# Altium footprint library PlacaHallsLib.PcbLib: 2 footprints
Each footprint in its own frame and in the unit in brackets; x right, y up, seen from the top. Pads: shape width x height; smd on the part's side, far side on the other; paste and mask are expansions set on the pad; w line width, h text height; cw(c..) or ccw(c..) is an arc to the next point about the centre after c.
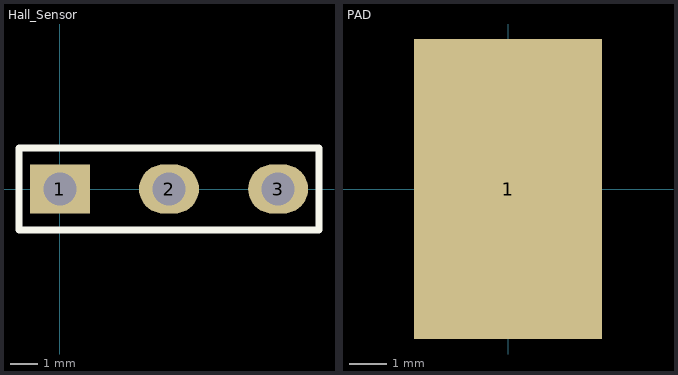
[diagram p0: the footprints below, top view; thin cyan lines are the x and y axes]

## Hall_Sensor [mm]
pads (3):
  rect 2.2x1.8 hole 1.2: 1(0,0)
  oval 2.2x1.8 hole 1.2: 2(4,0) 3(8,0)
Top Overlay:
  lines w0.254: -1.5,-1.5 9.5,-1.5 9.5,1.5 -1.5,1.5 -1.5,-1.5

## PAD [mm]
pads (1):
  rect 5x8 all layers, no hole: 1(0,0)